# Altium footprint library RD-91.PcbLib: 1 footprints
Each footprint in its own frame and in the unit in brackets; x right, y up, seen from the top. Pads: shape width x height; smd on the part's side, far side on the other; paste and mask are expansions set on the pad; w line width, h text height; cw(c..) or ccw(c..) is an arc to the next point about the centre after c.
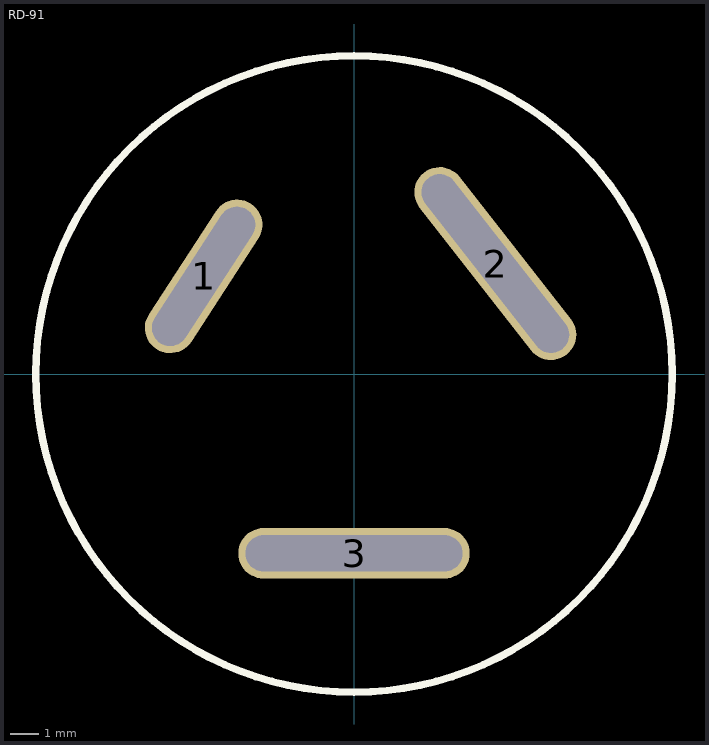
[diagram p0: the footprint, top view; thin cyan lines are the x and y axes]

## RD-91 [mm]
pads (3):
  oval 6x1.75 hole 1.25 slot 5.5 at 57 deg rot 57: 1(-5.199,3.376)
  oval 8x1.75 hole 1.25 slot 7.5 at 128 deg rot 128: 2(4.885,3.817)
  oval 8x1.75 hole 1.25 slot 7.5 at 0 deg: 3(0,-6.2)
Top Overlay:
  circle w0.254: c0,0 r11